# Altium schematic symbol library sdl.SchLib: 11 symbols
Pins are listed as number, name and electrical type; pins without a type are passive.

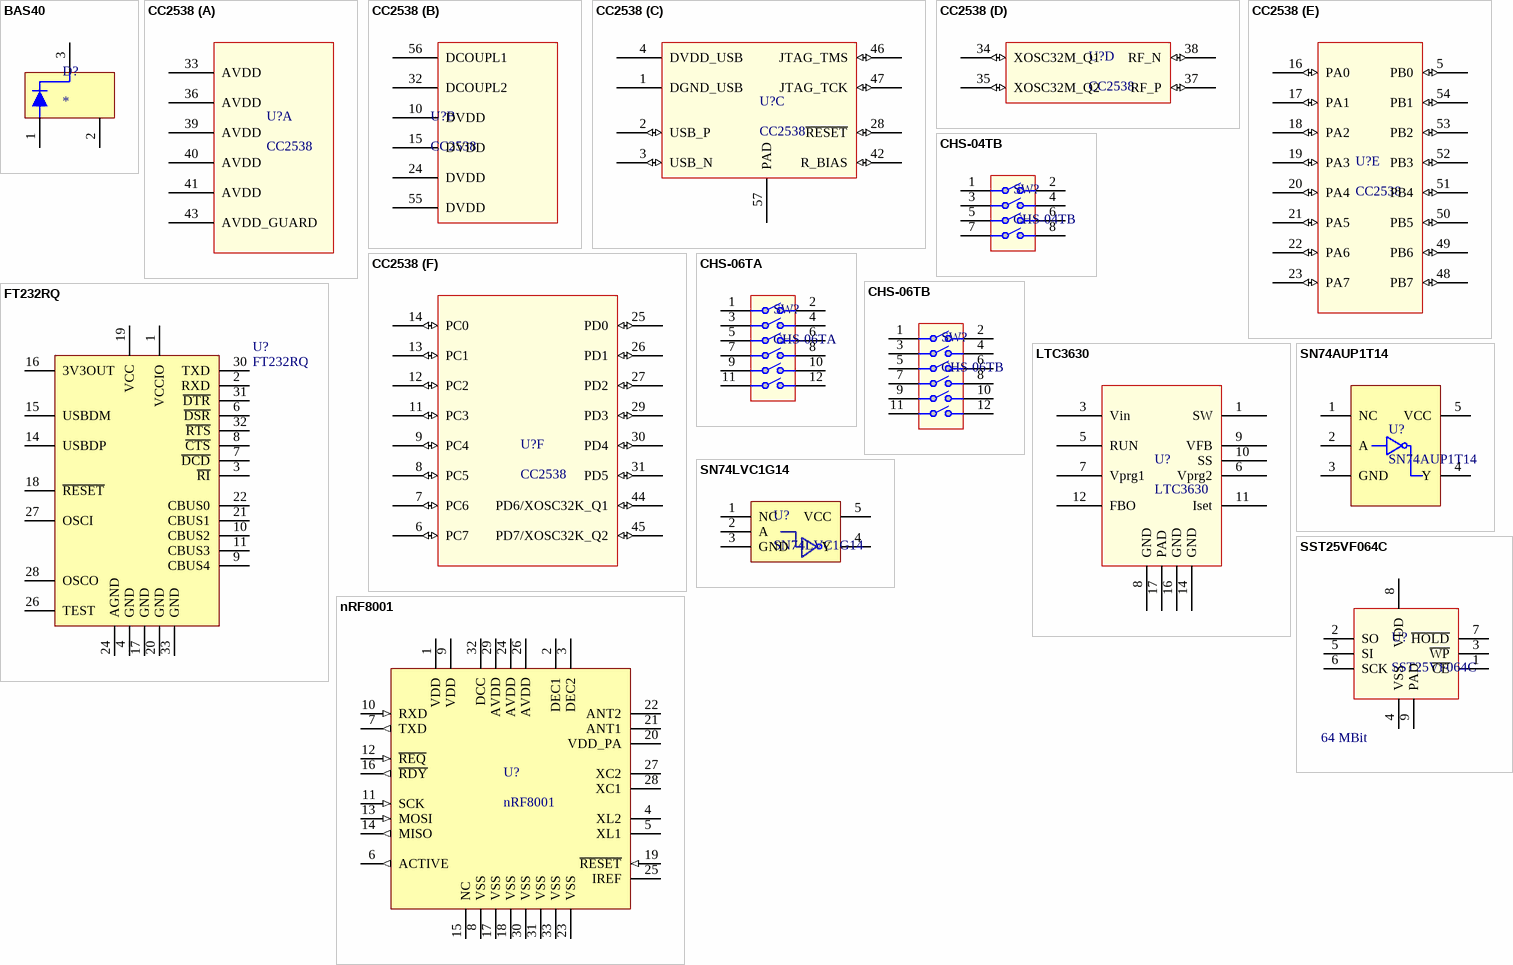
[diagram p0: symbols BAS40 to SST25VF064C]

## BAS40
designator D?
SURFACE MOUNT SCHOTTKY BARRIER DIODE; Supplier 1: Digi-Key; Supplier Part Number 1: BAS40-FDICT-ND
footprint SOT23-3 (SOT23, 3-Leads, Body 2.9x1.3mm, Pitch 0.95mm, Lead Span 2.3mm, IPC Medium Density)
pins: 1, 2, 3

## CC2538
designator U?
A Powerful System-On-Chip for 2.4-GHz IEEE 802.15.4, 6LoWPAN  and ZigBee Applications; Supplier 1: Digi-Key; Supplier Part Number 1: 296-35797-1-ND
footprint QFN56 (QFN, 56-Leads, Body 8.00x8.00mm, Pitch 0.50mm, Thermal Pad 6.60x6.60mm, IPC Medium Density)
part A pins: 33 AVDD (power), 36 AVDD (power), 39 AVDD (power), 40 AVDD (power), 41 AVDD (power), 43 AVDD_GUARD (power)
part B pins: 10 DVDD (power), 15 DVDD (power), 24 DVDD (power), 32 DCOUPL2 (power), 55 DVDD (power), 56 DCOUPL1 (power)
part C pins: 1 DGND_USB (power), 2 USB_P (io), 3 USB_N (io), 4 DVDD_USB (power), 28 ~{RESET} (io), 42 R_BIAS (io), 46 JTAG_TMS (io), 47 JTAG_TCK (io), 57 PAD (power)
part D pins: 34 XOSC32M_Q1 (io), 35 XOSC32M_Q2 (io), 37 RF_P (io), 38 RF_N (io)
part E pins: 5 PB0 (io), 16 PA0 (io) "Bootloader UART RXD", 17 PA1 (io) "Bootloader UART TXD", 18 PA2 (io) "Bootloader SSI CLK", 19 PA3 (io) "Bootloader SSI SEL", 20 PA4 (io) "Bootloader SSI RXD", 21 PA5 (io) "Bootloader SSI TXD", 22 PA6 (io), 23 PA7 (io), 48 PB7 (io), 49 PB6 (io), 50 PB5 (io), 51 PB4 (io), 52 PB3 (io), 53 PB2 (io), 54 PB1 (io)
part F pins: 6 PC7 (io), 7 PC6 (io), 8 PC5 (io), 9 PC4 (io), 11 PC3 (io), 12 PC2 (io), 13 PC1 (io), 14 PC0 (io), 25 PD0 (io), 26 PD1 (io), 27 PD2 (io), 29 PD3 (io), 30 PD4 (io), 31 PD5 (io), 44 PD6/XOSC32K_Q1 (io), 45 PD7/XOSC32K_Q2 (io)

## CHS-04TB
designator SW?
SLIDE SWITCHES; Supplier 1: Digi-Key; Supplier Part Number 1: 563-1008-1-ND
footprint CHS04TB (4 POS DIP SWITCH)
pins: 1, 2, 3, 4, 5, 6, 7, 8

## CHS-06TA
designator SW?
SLIDE SWITCHES; Supplier 1: Digi-Key; Supplier Part Number 1: 563-1009-1-ND
footprint CHS-06TA (6 POS DIP SWITCH)
pins: 1, 2, 3, 4, 5, 6, 7, 8, 9, 10, 11, 12

## CHS-06TB
designator SW?
SLIDE SWITCHES; Supplier 1: Digi-Key; Supplier Part Number 1: 563-1010-1-ND
footprint CHS-06TB (6 POS DIP SWITCH)
pins: 1, 2, 3, 4, 5, 6, 7, 8, 9, 10, 11, 12

## FT232RQ
designator U?
FT232R USB UART; Manufacturer: *; Note: *; ManufacturerPartNo: *; Supplier 1: Digi-Key; Supplier Part Number 1: 768-1008-1-ND
footprint QFN-32
pins: 1 VCCIO, 2 RXD, 3 ~{RI}, 4 GND, 6 ~{DSR}, 7 ~{DCD}, 8 ~{CTS}, 9 CBUS4, 10 CBUS2, 11 CBUS3, 14 USBDP, 15 USBDM, 16 3V3OUT, 17 GND, 18 ~{RESET}, 19 VCC, 20 GND, 21 CBUS1, 22 CBUS0, 24 AGND, 26 TEST, 27 OSCI, 28 OSCO, 30 TXD, 31 ~{DTR}, 32 ~{RTS}, 33 GND
2 alternate drawings of the same symbol

## LTC3630
designator U?
High Efficiency, 65V 500mA synchronous Step-Down Converter; Supplier 1: Digi-Key; Supplier Part Number 1: LTC3630EMSE#PBF-ND
footprint MSE16(12) (TSSOP, 16-Leads, Body 4.04x3.00mm, Pitch 0.50mm, Thermal Pad 2.95x1.75mm, IPC Medium Density)
pins: 1 SW, 3 Vin, 5 RUN, 6 Vprg2, 7 Vprg1, 8 GND, 9 VFB, 10 SS, 11 Iset, 12 FBO, 14 GND, 16 GND, 17 PAD

## nRF8001
designator U?
Single-chip Bluetooth low energy solution; Supplier 1: Digi-Key; Supplier Part Number 1: 1490-1026-ND
footprint QFN32 (QFN, 32-Leads, Body 5.00x5.00mm, Pitch 0.50mm, Thermal Pad 3.60x3.60mm, IPC Medium Density)
pins: 1 VDD (power), 2 DEC1 (power), 3 DEC2 (power), 4 XL2, 5 XL1, 6 ACTIVE (out), 7 TXD (out), 8 VSS (power), 9 VDD (power), 10 RXD (in), 11 SCK (in), 12 ~{REQ} (in), 13 MOSI (in), 14 MISO (out), 15 NC, 16 ~{RDY} (out), 17 VSS, 18 VSS, 19 ~{RESET} (in), 20 VDD_PA (power), 21 ANT1, 22 ANT2, 23 VSS (power), 24 AVDD (power), 25 IREF, 26 AVDD, 27 XC2, 28 XC1, 29 AVDD (power), 30 VSS (power), 31 VSS (power), 32 DCC (power), 33 VSS (power)

## SN74AUP1T14
designator U?
LOW POWER, 1.8/2.5/3.3-V INPUT, 3.3-V CMOS OUTPUT, SINGLE  SCHMITT-TRIGGER INVERTER GATE; Supplier 1: Digi-Key; Supplier Part Number 1: 296-27392-1-ND
footprint SC-70-5 (DCK)
pins: 1 NC (power), 2 A (power), 3 GND (power), 4 Y (power), 5 VCC (power)

## SN74LVC1G14
designator U?
SN74LVC1G14 Single Schmitt-Trigger Inverter; Supplier 1: Digi-Key; Supplier Part Number 1: 296-11607-6-ND
footprint SOT23-5 (SOT23, 5-Leads, Body 2.90x2.45mm, Pitch 0.95mm, IPC Medium Density)
pins: 1 NC, 2 A, 3 GND, 4 Y, 5 VCC

## SST25VF064C
designator U?  Capacity: 64 MBit
64 Mbit SPI Serial Dual I/O Flash; Supplier 1: Digi-Key; Supplier Part Number 1: SST25VF064C-80-4I-Q2AE-CT-ND
footprint WSON (QFN, 8-Leads, Body 6.00x5.00mm, Pitch 1.27mm, Thermal Pad 3.40x4.00mm, IPC Medium Density)
pins: 1 ~{CE}, 2 SO, 3 ~{WP}, 4 VSS, 5 SI, 6 SCK, 7 ~{HOLD}, 8 VDD, 9 PAD